# EAGLE library part PINGUINO-MICRO-FOOTPRINT (library pinguino-micro-footprint)
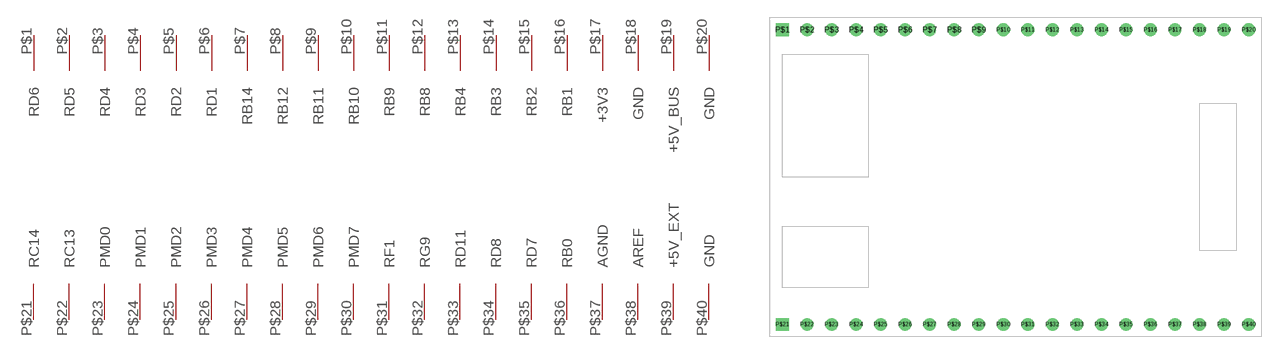
[diagram p0: symbol with the pads of PINGUINO-MICRO; footprint PINGUINO-MICRO]

Designator prefix -

## PINGUINO-MICRO-FOOTPRINT  [PINGUINO-MICRO]
P$1  RD6
P$2  RD5
P$3  RD4
P$4  RD3
P$5  RD2
P$6  RD1
P$7  RB14
P$8  RB12
P$9  RB11
P$10  RB10
P$11  RB9
P$12  RB8
P$13  RB4
P$14  RB3
P$15  RB2
P$16  RB1
P$17  +3V3
P$18  GND
P$19  +5V_BUS
P$20  GND
P$21  RC14
P$22  RC13
P$23  PMD0
P$24  PMD1
P$25  PMD2
P$26  PMD3
P$27  PMD4
P$28  PMD5
P$29  PMD6
P$30  PMD7
P$31  RF1
P$32  RG9
P$33  RD11
P$34  RD8
P$35  RD7
P$36  RB0
P$37  AGND
P$38  AREF
P$39  +5V_EXT
P$40  GND

## Footprint PINGUINO-MICRO (pad centres in mm)
drill 0.8 square: P$1 0,15.24; P$21 0,-15.24
drill 0.8: P$2 2.54,15.24; P$3 5.08,15.24; P$4 7.62,15.24; P$5 10.16,15.24; P$6 12.7,15.24; P$7 15.24,15.24; P$8 17.78,15.24; P$9 20.32,15.24; P$10 22.86,15.24; P$11 25.4,15.24; P$12 27.94,15.24; P$13 30.48,15.24; P$14 33.02,15.24; P$15 35.56,15.24; P$16 38.1,15.24; P$17 40.64,15.24; P$18 43.18,15.24; P$19 45.72,15.24; P$20 48.26,15.24; P$22 2.54,-15.24; P$23 5.08,-15.24; P$24 7.62,-15.24; P$25 10.16,-15.24; P$26 12.7,-15.24; P$27 15.24,-15.24; P$28 17.78,-15.24; P$29 20.32,-15.24; P$30 22.86,-15.24; P$31 25.4,-15.24; P$32 27.94,-15.24; P$33 30.48,-15.24; P$34 33.02,-15.24; P$35 35.56,-15.24; P$36 38.1,-15.24; P$37 40.64,-15.24; P$38 43.18,-15.24; P$39 45.72,-15.24; P$40 48.26,-15.24